# EAGLE library part 2N7002 (library Passives)
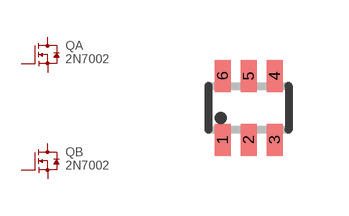
[diagram p1: symbol with the pads of SOT-363; footprint SOT-363]

Designator prefix Q; gates B=N-MOSFET A=N-MOSFET

## 2N7002DWA-7  [SOT-363]
1  A:SOURCE
2  A:GATE
3  B:DRAIN
4  B:SOURCE
5  B:GATE
6  A:DRAIN

## Footprint SOT-363 (pad centres in mm)
smd 0.4 x 0.8: 1 -0.65,-0.8; 2 0,-0.8; 3 0.65,-0.8; 4 0.65,0.8; 5 0,0.8; 6 -0.65,0.8